# EAGLE library part TPD8S009 (library ic-TI)
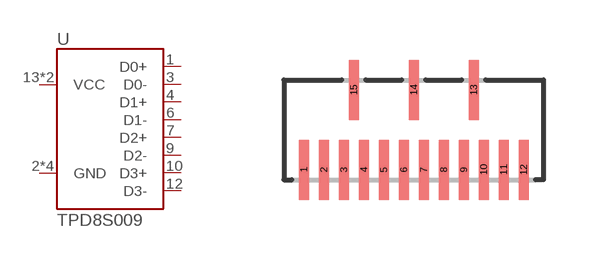
[diagram p55: symbol with the pads of WQFN15-0.5; footprint WQFN15-0.5]

Designator prefix U

## TPD8S009  [WQFN15-0.5]
1  D0+
2  GND
3  D0-
4  D1+
5  GND
6  D1-
7  D2+
8  GND
9  D2-
10  D3+
11  GND
12  D3-
13  VCC
15  VCC

## Footprint WQFN15-0.5 (pad centres in mm)
smd 0.25 x 1.5: 1 -2.75,-1; 2 -2.25,-1; 3 -1.75,-1; 4 -1.25,-1; 5 -0.75,-1; 6 -0.25,-1; 7 0.25,-1; 8 0.75,-1; 9 1.25,-1; 10 1.75,-1; 11 2.25,-1; 12 2.75,-1; 13 1.5,1; 14 0,1; 15 -1.5,1